# Altium footprint library 0ZCF0250FF2C.PcbLib: 1 footprints
Each footprint in its own frame and in the unit in brackets; x right, y up, seen from the top. Pads: shape width x height; smd on the part's side, far side on the other; paste and mask are expansions set on the pad; w line width, h text height; cw(c..) or ccw(c..) is an arc to the next point about the centre after c.
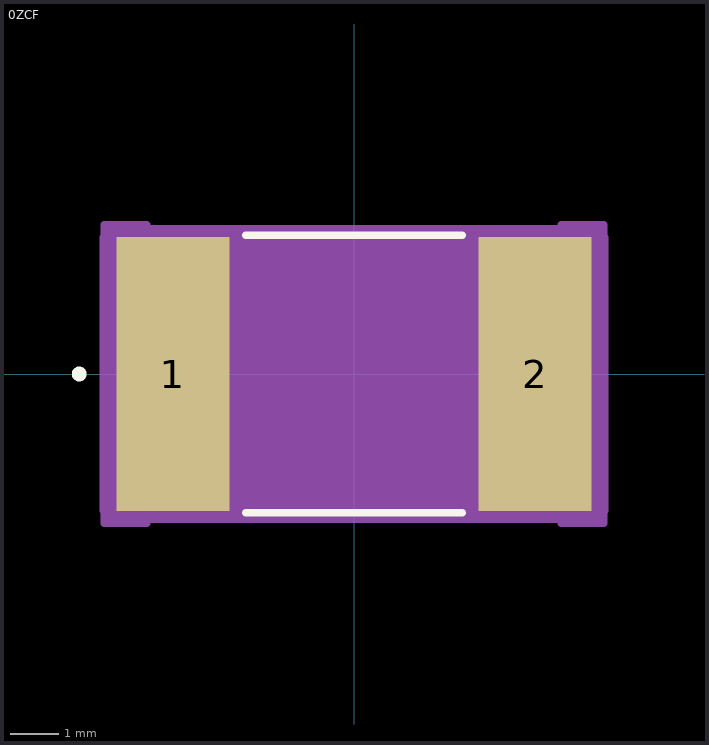
[diagram p0: the footprint, top view; thin cyan lines are the x and y axes]

## 0ZCF [mil]
pads (2):
  rect 91x221 smd paste+0 mask+0: 1(-146,0) 2(146,0)
Top Overlay:
  circle w6: c-221.5,0 r3
  lines w6: -87.49,-112 87.49,-112 ; -87.49,112 87.49,112
Mechanical 13:
  circle w0: c-147,0 r3
  lines w1: -157,-107 157,-107 157,107 -157,107 -157,-107
Mechanical 15:
  region: -167,-120.5 -201.5,-120.5 -201.5,120.5 -167,120.5 -167,117 167,117 167,120.5 201.5,120.5 201.5,-120.5 167,-120.5 167,-117 -167,-117
  region: 157,-107 -157,-107 -157,107 157,107
  lines w6: -201.5,-120.5 -201.5,120.5 -167,120.5 -167,117 167,117 167,120.5 201.5,120.5 201.5,-120.5 167,-120.5 167,-117 -167,-117 -167,-120.5 -201.5,-120.5
Mechanical 29:
  circle w15: c-175,0 r5
  lines w10: -200,-110 200,-110 200,110 -200,110 -200,-110
  text ".Designator" at -65,-9.98 h80
3D body: height 10, standoff 0, extent 0,0 10,10
3D body "0ZCF.stp": height 45, standoff 0, extent -157,-110.51 157.01,110.52